# EAGLE library part 613010143121 (library Eagle_BOARD-TO-BOARD_CONNECTORS (rev18b))
WR-PHD 2.54mm Angled Socket Header, 10 Pins =>Code : Con_BTB_SHD_2.54_1_THT_613010143121 <http://katalog.we-online.de/media/images/eican/Con_BTB_SHD_2.54_1_THT_6130xx143121_pf2.jpg> Details see: http://katalog.we-online.de/en/em/613_0xx_143_121 Created 2014-05-29, Karrer Zheng 2014 (C) Würth Elektronik
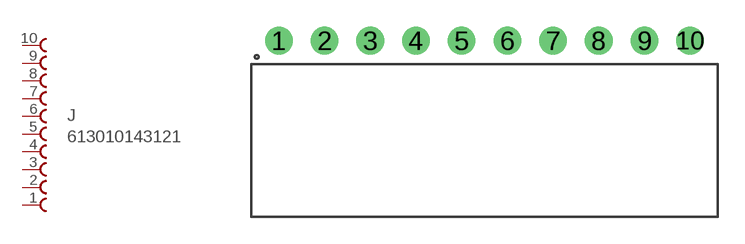
[diagram p130: symbol with the pads of 613010143121; footprint 613010143121]

Designator prefix J

## 613010143121  [613010143121]
1  10  pas
2  9  pas
3  8  pas
4  7  pas
5  6  pas
6  5  pas
7  4  pas
8  3  pas
9  2  pas
10  1  pas

## Footprint 613010143121 (pad centres in mm)
WR-PHD 2.54mm Angled Socket Header, 10 Pins
drill 1.02: 1 -11.43,0; 2 -8.89,0; 3 -6.35,0; 4 -3.81,0; 5 -1.27,0; 6 1.27,0; 7 3.81,0; 8 6.35,0; 9 8.89,0; 10 11.43,0